# Altium schematic symbol library STLink_V2_Design.SchLib: 1 symbol
Pins are listed as number, name and electrical type; pins without a type are passive.

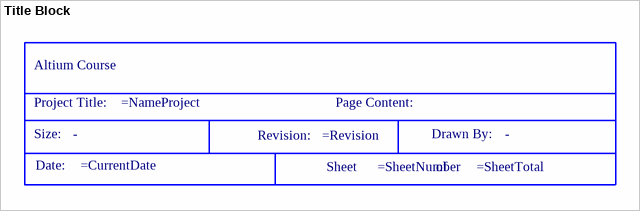
[diagram p0: symbol Title Block]

## Title Block
designator *  (value not drawn)  (graphical)
Size: -; Drawn By: -
text: Altium Course; Project Title:; Page Content:; Size:; Drawn By:; Revision:; Date:; Sheet; of